# Altium footprint library CYW55913IUBGTXTMA1.PcbLib: 1 footprints
Each footprint in its own frame and in the unit in brackets; x right, y up, seen from the top. Pads: shape width x height; smd on the part's side, far side on the other; paste and mask are expansions set on the pad; w line width, h text height; cw(c..) or ccw(c..) is an arc to the next point about the centre after c.
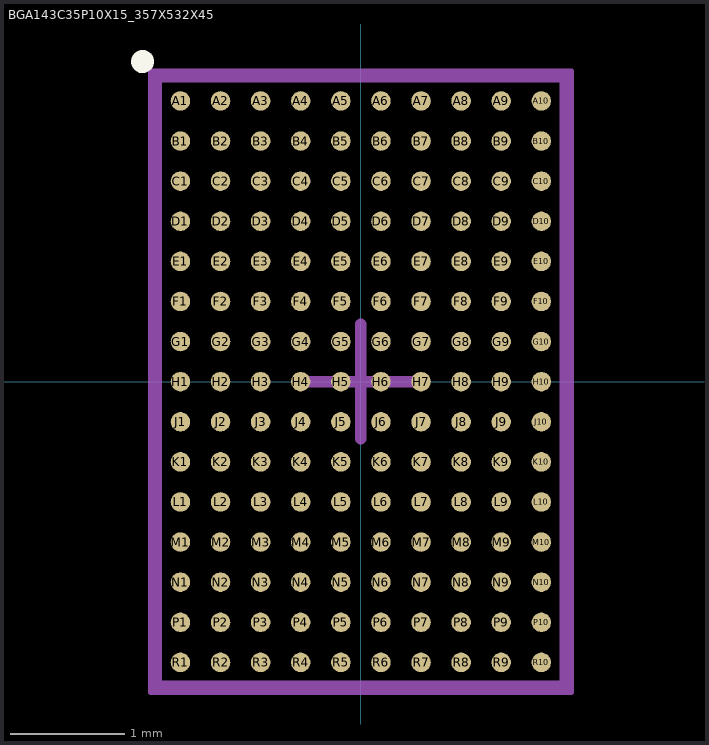
[diagram p0: the footprint, top view; thin cyan lines are the x and y axes]

## BGA143C35P10X15_357X532X45 [mm] "BGA, 143-Leads, Body 3,57x5,32mmx0,45mm, Pitch 0,35mm"
height 0.45
pads (150):
  round 0.17 smd mask+0: A1(-1.575,2.45) A2(-1.225,2.45) A3(-0.875,2.45) A4(-0.525,2.45) A5(-0.175,2.45) A6(0.175,2.45) A7(0.525,2.45) A8(0.875,2.45) A9(1.225,2.45) A10(1.575,2.45) B1(-1.575,2.1) B2(-1.225,2.1) B3(-0.875,2.1) B4(-0.525,2.1) B5(-0.175,2.1) B6(0.175,2.1) B7(0.525,2.1) B8(0.875,2.1) B9(1.225,2.1) B10(1.575,2.1) C1(-1.575,1.75) C2(-1.225,1.75) C3(-0.875,1.75) C4(-0.525,1.75) C5(-0.175,1.75) C6(0.175,1.75) C7(0.525,1.75) C8(0.875,1.75) C9(1.225,1.75) C10(1.575,1.75) D1(-1.575,1.4) D2(-1.225,1.4) D3(-0.875,1.4) D4(-0.525,1.4) D5(-0.175,1.4) D6(0.175,1.4) D7(0.525,1.4) D8(0.875,1.4) D9(1.225,1.4) D10(1.575,1.4) E1(-1.575,1.05) E2(-1.225,1.05) E3(-0.875,1.05) E4(-0.525,1.05) E5(-0.175,1.05) E6(0.175,1.05) E7(0.525,1.05) E8(0.875,1.05) E9(1.225,1.05) E10(1.575,1.05) F1(-1.575,0.7) F2(-1.225,0.7) F3(-0.875,0.7) F4(-0.525,0.7) F5(-0.175,0.7) F6(0.175,0.7) F7(0.525,0.7) F8(0.875,0.7) F9(1.225,0.7) F10(1.575,0.7) G1(-1.575,0.35) G2(-1.225,0.35) G3(-0.875,0.35) G4(-0.525,0.35) G5(-0.175,0.35) G6(0.175,0.35) G7(0.525,0.35) G8(0.875,0.35) G9(1.225,0.35) G10(1.575,0.35) H1(-1.575,0) H2(-1.225,0) H3(-0.875,0) H4(-0.525,0) H5(-0.175,0) H6(0.175,0) H7(0.525,0) H8(0.875,0) H9(1.225,0) H10(1.575,0) J1(-1.575,-0.35) J2(-1.225,-0.35) J3(-0.875,-0.35) J4(-0.525,-0.35) J5(-0.175,-0.35) J6(0.175,-0.35) J7(0.525,-0.35) J8(0.875,-0.35) J9(1.225,-0.35) J10(1.575,-0.35) K1(-1.575,-0.7) K2(-1.225,-0.7) K3(-0.875,-0.7) K4(-0.525,-0.7) K5(-0.175,-0.7) K6(0.175,-0.7) K7(0.525,-0.7) K8(0.875,-0.7) K9(1.225,-0.7) K10(1.575,-0.7) L1(-1.575,-1.05) L2(-1.225,-1.05) L3(-0.875,-1.05) L4(-0.525,-1.05) L5(-0.175,-1.05) L6(0.175,-1.05) L7(0.525,-1.05) L8(0.875,-1.05) L9(1.225,-1.05) L10(1.575,-1.05) M1(-1.575,-1.4) M2(-1.225,-1.4) M3(-0.875,-1.4) M4(-0.525,-1.4) M5(-0.175,-1.4) M6(0.175,-1.4) M7(0.525,-1.4) M8(0.875,-1.4) M9(1.225,-1.4) M10(1.575,-1.4) N1(-1.575,-1.75) N2(-1.225,-1.75) N3(-0.875,-1.75) N4(-0.525,-1.75) N5(-0.175,-1.75) N6(0.175,-1.75) N7(0.525,-1.75) N8(0.875,-1.75) N9(1.225,-1.75) N10(1.575,-1.75) P1(-1.575,-2.1) P2(-1.225,-2.1) P3(-0.875,-2.1) P4(-0.525,-2.1) P5(-0.175,-2.1) P6(0.175,-2.1) P7(0.525,-2.1) P8(0.875,-2.1) P9(1.225,-2.1) P10(1.575,-2.1) R1(-1.575,-2.45) R2(-1.225,-2.45) R3(-0.875,-2.45) R4(-0.525,-2.45) R5(-0.175,-2.45) R6(0.175,-2.45) R7(0.525,-2.45) R8(0.875,-2.45) R9(1.225,-2.45) R10(1.575,-2.45)
Top Overlay:
  circle w0.1: c-1.905,2.794 r0.05
Top Assembly:
  lines w0.1: -1.785,-2.66 1.785,-2.66 1.785,2.66 -1.785,2.66 -1.785,-2.66
Top Courtyard:
  lines w0.05: -1.835,-2.71 -1.835,2.71 1.835,2.71 1.835,-2.71 -1.835,-2.71
  lines w0.1: -0.5,0 0.5,0 ; 0,-0.5 0,0.5
3D body "BGA143C35P10X15_357X532X45.step": height 0.45, standoff 0, extent -1.785,-2.66 1.785,2.66